# Altium footprint library SSOP.PcbLib: 21 footprints (part 1 of 2)
Each footprint in its own frame and in the unit in brackets; x right, y up, seen from the top. Pads: shape width x height; smd on the part's side, far side on the other; paste and mask are expansions set on the pad; w line width, h text height; cw(c..) or ccw(c..) is an arc to the next point about the centre after c.
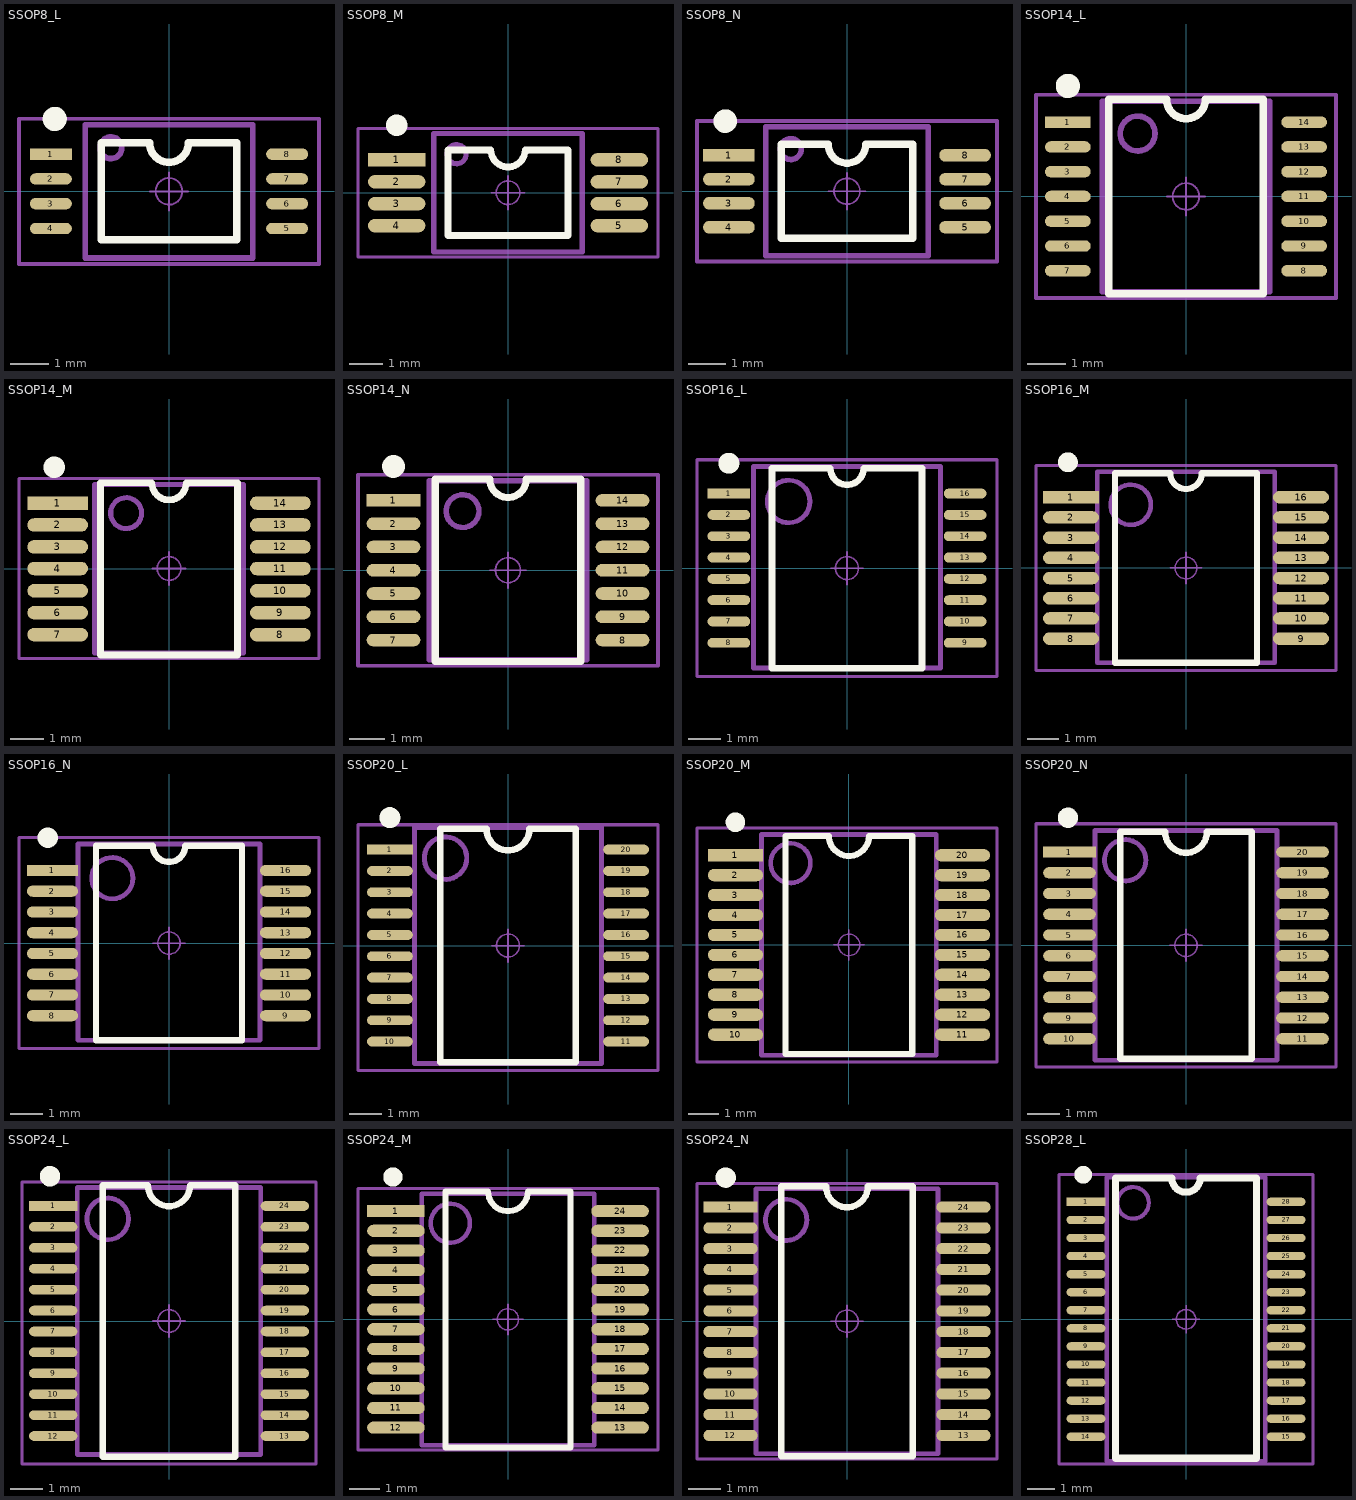
[diagram p0: the footprints below, top view; thin cyan lines are the x and y axes]

## SSOP8_L [mm] "3*6.4*1.2mm（长宽高）"
pads (8):
  rect 1.1x0.3 smd: 1(-3.1,0.975)
  oval 1.1x0.3 smd: 2(-3.1,0.325) 3(-3.1,-0.325) 4(-3.1,-0.975) 5(3.1,-0.975) 6(3.1,-0.325) 7(3.1,0.325) 8(3.1,0.975)
Top Overlay:
  circle w0.381: c-3,1.9 r0.127
  lines w0.2: -1.778,-1.27 -1.778,1.27 -0.508,1.27 ccw(c0,1.27) 0.508,1.27 1.778,1.27 1.778,-1.27 -1.778,-1.27
Mechanical 13:
  circle w0.15: c-1.524,1.143 r0.284
  lines w0.15: -2.2,-1.75 -2.2,1.75 2.2,1.75 2.2,-1.75 -2.2,-1.75
Mechanical 15:
  circle w0.05: c0,0 r0.35
  lines w0.05: -0.5,0 0.5,0 ; 0,-0.5 0,0.5
  lines w0.1: -3.937,-1.905 3.937,-1.905 3.937,1.905 -3.937,1.905 -3.937,-1.905
3D body: height 1.25, standoff -0.03, extent -3.202,-1.75 3.202,1.75

## SSOP8_M [mm] "3*6.4*1.2mm（长宽高）"
pads (8):
  rect 1.7x0.4 smd: 1(-3.3,0.975)
  oval 1.7x0.4 smd: 2(-3.3,0.325) 3(-3.3,-0.325) 4(-3.3,-0.975) 5(3.3,-0.975) 6(3.3,-0.325) 7(3.3,0.325) 8(3.3,0.975)
Top Overlay:
  circle w0.381: c-3.3,2 r0.127
  lines w0.2: -1.778,-1.27 1.778,-1.27 1.778,1.27 0.508,1.27 cw(c0,1.27) -0.508,1.27 -1.778,1.27 -1.778,-1.27
Mechanical 13:
  circle w0.15: c-1.524,1.143 r0.284
  lines w0.15: -2.2,-1.75 -2.2,1.75 2.2,1.75 2.2,-1.75 -2.2,-1.75
Mechanical 15:
  circle w0.05: c0,0 r0.35
  lines w0.05: -0.5,0 0.5,0 ; 0,-0.5 0,0.5
  lines w0.1: -4.445,-1.905 -4.445,1.905 4.445,1.905 4.445,-1.905 -4.445,-1.905
3D body: height 1.25, standoff -0.03, extent -3.202,-1.75 3.202,1.75

## SSOP8_N [mm] "3*6.4*1.2mm（长宽高）"
pads (8):
  rect 1.4x0.35 smd: 1(-3.2,0.975)
  oval 1.4x0.35 smd: 2(-3.2,0.325) 3(-3.2,-0.325) 4(-3.2,-0.975) 5(3.2,-0.975) 6(3.2,-0.325) 7(3.2,0.325) 8(3.2,0.975)
Top Overlay:
  circle w0.381: c-3.3,1.9 r0.127
  lines w0.2: -1.778,-1.27 -1.778,1.27 -0.508,1.27 ccw(c0,1.27) 0.508,1.27 1.778,1.27 1.778,-1.27 -1.778,-1.27
Mechanical 13:
  circle w0.15: c-1.524,1.143 r0.284
  lines w0.15: -2.2,-1.75 -2.2,1.75 2.2,1.75 2.2,-1.75 -2.2,-1.75
Mechanical 15:
  circle w0.05: c0,0 r0.35
  lines w0.05: -0.5,0 0.5,0 ; 0,-0.5 0,0.5
  lines w0.1: -4.064,-1.905 3.429,-1.905 4.064,-1.905 4.064,1.905 -4.064,1.905 -4.064,-1.905
3D body: height 1.25, standoff -0.03, extent -3.202,-1.75 3.202,1.75

## SSOP14_L [mm] "5*6.4*1.2mm（长宽高）"
height 1.1
pads (14):
  rect 1.2x0.3 smd: 1(-3.1,1.95)
  oval 1.2x0.3 smd: 2(-3.1,1.3) 3(-3.1,0.65) 4(-3.1,0) 5(-3.1,-0.65) 6(-3.1,-1.3) 7(-3.1,-1.95) 8(3.1,-1.95) 9(3.1,-1.3) 10(3.1,-0.65) 11(3.1,0) 12(3.1,0.65) 13(3.1,1.3) 14(3.1,1.95)
Top Overlay:
  circle w0.381: c-3.1,2.9 r0.127
  lines w0.2: -2.032,-2.55 -2.032,2.55 -0.508,2.55 ccw(c0,2.55) 0.508,2.55 2.032,2.55 2.032,-2.55 -2.032,-2.55
Mechanical 13:
  circle w0.15: c-1.27,1.651 r0.458
  lines w0.15: -2.2,-2.5 2.2,-2.5 2.2,2.5 -2.2,2.5 -2.2,-2.5
Mechanical 15:
  circle w0.05: c0,0 r0.35
  lines w0.05: -0.5,0 0.5,0 ; 0,-0.5 0,0.5
  lines w0.1: -3.937,-2.667 -3.937,-2.54 -3.937,2.667 3.937,2.667 3.937,-2.667 -3.937,-2.667
3D body: height 1.25, standoff -0.03, extent -3.202,-2.5 3.202,2.5

## SSOP14_M [mm] "5*6.4*1.2mm（长宽高）"
height 1.1
pads (14):
  rect 1.8x0.4 smd: 1(-3.3,1.94)
  oval 1.8x0.4 smd: 2(-3.3,1.29) 3(-3.3,0.64) 4(-3.3,0) 5(-3.3,-0.66) 6(-3.3,-1.31) 7(-3.3,-1.96) 8(3.3,-1.96) 9(3.3,-1.31) 10(3.3,-0.66) 11(3.3,0) 12(3.3,0.64) 13(3.3,1.29) 14(3.3,1.94)
Top Overlay:
  circle w0.381: c-3.4,3 r0.127
  lines w0.2: -2.032,-2.56 -2.032,2.54 -0.508,2.54 ccw(c0,2.54) 0.508,2.54 2.032,2.54 2.032,-2.56 -2.032,-2.56
Mechanical 13:
  circle w0.15: c-1.27,1.641 r0.458
  lines w0.15: -2.2,-2.51 -2.2,2.49 2.2,2.49 2.2,-2.51 -2.2,-2.51
Mechanical 15:
  circle w0.05: c0,0 r0.35
  lines w0.05: -0.5,0 0.5,0 ; 0,-0.5 0,0.5
  lines w0.1: -4.445,-2.667 -4.445,2.667 4.445,2.667 4.445,-2.667 -4.445,-2.667
3D body: height 1.25, standoff -0.03, extent -3.202,-2.51 3.202,2.49

## SSOP14_N [mm] "5*6.4*1.2mm（长宽高）"
height 1.1
pads (14):
  rect 1.5x0.35 smd: 1(-3.2,1.95)
  oval 1.5x0.35 smd: 2(-3.2,1.3) 3(-3.2,0.65) 4(-3.2,0) 5(-3.2,-0.65) 6(-3.2,-1.3) 7(-3.2,-1.95) 8(3.2,-1.95) 9(3.2,-1.3) 10(3.2,-0.65) 11(3.2,0) 12(3.2,0.65) 13(3.2,1.3) 14(3.2,1.95)
Top Overlay:
  circle w0.381: c-3.2,2.9 r0.127
  lines w0.2: -2.032,-2.55 2.032,-2.55 2.032,2.55 0.508,2.55 cw(c0,2.54) -0.508,2.55 -2.032,2.55 -2.032,-2.55
Mechanical 13:
  circle w0.15: c-1.27,1.651 r0.458
  lines w0.15: -2.2,-2.5 -2.2,2.5 2.2,2.5 2.2,-2.5 -2.2,-2.5
Mechanical 15:
  circle w0.05: c0,0 r0.35
  lines w0.05: -0.5,0 0.5,0 ; 0,-0.5 0,0.5
  lines w0.1: -4.191,-2.667 -4.191,2.667 4.191,2.667 4.191,-2.667 -4.191,-2.667
3D body: height 1.25, standoff -0.03, extent -3.202,-2.5 3.202,2.5

## SSOP16_L [mm] "6.3*7.7*1.6mm（长宽高）"
pads (16):
  rect 1.3x0.3 smd: 1(-3.6,2.275)
  oval 1.3x0.3 smd: 2(-3.6,1.625) 3(-3.6,0.975) 4(-3.6,0.325) 5(-3.6,-0.325) 6(-3.6,-0.975) 7(-3.6,-1.625) 8(-3.6,-2.275) 9(3.6,-2.275) 10(3.6,-1.625) 11(3.6,-0.975) 12(3.6,-0.325) 13(3.6,0.325) 14(3.6,0.975) 15(3.6,1.625) 16(3.6,2.275)
Top Overlay:
  circle w0.381: c-3.6,3.2 r0.127
  lines w0.2: -2.286,-3.048 -2.286,3.048 -0.508,3.048 ccw(c0,3.048) 0.508,3.048 2.286,3.048 2.286,-3.048 -2.286,-3.048
Mechanical 13:
  circle w0.15: c-1.778,2.032 r0.648
  lines w0.15: -2.85,-3.048 2.85,-3.048 2.85,3.1 -2.85,3.1 -2.85,-3.048
Mechanical 15:
  circle w0.05: c0,0 r0.35
  lines w0.05: -0.5,0 0.5,0 ; 0,-0.5 0,0.5
  lines w0.1: -4.572,-3.302 -4.572,3.302 4.572,3.302 4.572,-3.302 -4.572,-3.302
3D body: height 1.65, standoff -0.03, extent -3.852,-3.1 3.852,3.1

## SSOP16_M [mm] "6.3*7.7*1.6mm（长宽高）"
pads (16):
  rect 1.8x0.4 smd: 1(-3.7,2.275)
  oval 1.8x0.4 smd: 2(-3.7,1.625) 3(-3.7,0.975) 4(-3.7,0.325) 5(-3.7,-0.325) 6(-3.7,-0.975) 7(-3.7,-1.625) 8(-3.7,-2.275) 9(3.7,-2.275) 10(3.7,-1.625) 11(3.7,-0.975) 12(3.7,-0.325) 13(3.7,0.325) 14(3.7,0.975) 15(3.7,1.625) 16(3.7,2.275)
Top Overlay:
  circle w0.381: c-3.8,3.4 r0.127
  lines w0.2: -2.286,-3.048 2.286,-3.048 2.286,3.048 0.508,3.048 cw(c0,3.048) -0.508,3.048 -2.286,3.048 -2.286,-3.048
Mechanical 13:
  circle w0.15: c-1.778,2.032 r0.648
  lines w0.15: -2.85,-3.048 -2.85,3.1 2.85,3.1 2.85,-3.048 -2.85,-3.048
Mechanical 15:
  circle w0.05: c0,0 r0.35
  lines w0.05: -0.5,0 0.5,0 ; 0,-0.5 0,0.5
  lines w0.1: -4.826,-3.302 4.826,-3.302 4.826,3.302 -4.826,3.302 -4.826,-3.302
3D body: height 1.65, standoff -0.03, extent -3.852,-3.1 3.852,3.1

## SSOP16_N [mm] "6.3*7.7*1.6mm（长宽高）"
pads (16):
  rect 1.6x0.35 smd: 1(-3.65,2.275)
  oval 1.6x0.35 smd: 2(-3.65,1.625) 3(-3.65,0.975) 4(-3.65,0.325) 5(-3.65,-0.325) 6(-3.65,-0.975) 7(-3.65,-1.625) 8(-3.65,-2.275) 9(3.65,-2.275) 10(3.65,-1.625) 11(3.65,-0.975) 12(3.65,-0.325) 13(3.65,0.325) 14(3.65,0.975) 15(3.65,1.625) 16(3.65,2.275)
Top Overlay:
  circle w0.381: c-3.8,3.3 r0.127
  lines w0.2: -2.286,-3.048 2.286,-3.048 2.286,3.048 0.508,3.048 cw(c0,3.048) -0.508,3.048 -2.286,3.048 -2.286,-3.048
Mechanical 13:
  circle w0.15: c-1.778,2.032 r0.648
  lines w0.15: -2.85,-3.048 2.85,-3.048 2.85,3.1 -2.85,3.1 -2.85,-3.048
Mechanical 15:
  circle w0.05: c0,0 r0.35
  lines w0.05: -0.5,0 0.5,0 ; 0,-0.5 0,0.5
  lines w0.1: -4.699,-3.302 -4.699,3.302 4.699,3.302 4.699,-3.302 -4.699,-3.302
3D body: height 1.65, standoff -0.03, extent -3.852,-3.1 3.852,3.1

## SSOP20_L [mm] "7.2*7.8*1.6（长宽高）"
pads (20):
  rect 1.4x0.3 smd: 1(-3.6,2.925)
  oval 1.4x0.3 smd: 2(-3.6,2.275) 3(-3.6,1.625) 4(-3.6,0.975) 5(-3.6,0.325) 6(-3.6,-0.325) 7(-3.6,-0.975) 8(-3.6,-1.625) 9(-3.6,-2.275) 10(-3.6,-2.925) 11(3.6,-2.925) 12(3.6,-2.275) 13(3.6,-1.625) 14(3.6,-0.975) 15(3.6,-0.325) 16(3.6,0.325) 17(3.6,0.975) 18(3.6,1.625) 19(3.6,2.275) 20(3.6,2.925)
Top Overlay:
  circle w0.381: c-3.6,3.9 r0.127
  lines w0.2: -2.065,-3.556 2.065,-3.556 2.065,3.556 0.655,3.556 cw(c0,3.556) -0.655,3.556 -2.065,3.556 -2.065,-3.556
Mechanical 13:
  circle w0.15: c-1.905,2.667 r0.648
  lines w0.15: -2.85,-3.6 2.85,-3.6 2.85,3.6 -2.85,3.6 -2.85,-3.6
Mechanical 15:
  circle w0.05: c0,0 r0.35
  lines w0.05: -0.5,0 0.5,0 ; 0,-0.5 0,0.5
  lines w0.1: -4.572,-3.81 -2.667,-3.81 4.572,-3.81 4.572,3.683 -4.572,3.683 -4.572,-3.81
3D body: height 1.65, standoff -0.03, extent -3.852,-3.6 3.852,3.6

## SSOP20_M [mm] "7.2*7.8*1.6（长宽高）"
pads (20):
  rect 1.8x0.4 smd: 1(-3.7,2.925)
  oval 1.8x0.4 smd: 2(-3.7,2.275) 3(-3.7,1.625) 4(-3.7,0.975) 5(-3.7,0.325) 6(-3.7,-0.325) 7(-3.7,-0.975) 8(-3.7,-1.625) 9(-3.7,-2.275) 10(-3.7,-2.925) 11(3.7,-2.925) 12(3.7,-2.275) 13(3.7,-1.625) 14(3.7,-0.975) 15(3.7,-0.325) 16(3.7,0.325) 17(3.7,0.975) 18(3.7,1.625) 19(3.7,2.275) 20(3.7,2.925)
Top Overlay:
  circle w0.381: c-3.7,4 r0.127
  lines w0.2: -2.065,-3.556 2.065,-3.556 2.065,3.556 0.655,3.556 cw(c0,3.556) -0.655,3.556 -2.065,3.556 -2.065,-3.556
Mechanical 13:
  circle w0.15: c-1.905,2.667 r0.648
  lines w0.15: -2.85,-3.6 2.85,-3.6 2.85,3.6 -2.85,3.6 -2.85,-3.6
Mechanical 15:
  circle w0.05: c0,0 r0.35
  lines w0.05: -0.5,0 0.5,0 ; 0,-0.5 0,0.5
  lines w0.1: -4.953,-3.81 4.826,-3.81 4.826,3.81 -4.953,3.81 -4.953,-3.81
3D body: height 1.65, standoff -0.03, extent -3.852,-3.6 3.852,3.6

## SSOP20_N [mm] "7.2*7.8*1.6（长宽高）"
pads (20):
  rect 1.65x0.35 smd: 1(-3.65,2.925)
  oval 1.65x0.35 smd: 2(-3.65,2.275) 3(-3.65,1.625) 4(-3.65,0.975) 5(-3.65,0.325) 6(-3.65,-0.325) 7(-3.65,-0.975) 8(-3.65,-1.625) 9(-3.65,-2.275) 10(-3.65,-2.925) 11(3.65,-2.925) 12(3.65,-2.275) 13(3.65,-1.625) 14(3.65,-0.975) 15(3.65,-0.325) 16(3.65,0.325) 17(3.65,0.975) 18(3.65,1.625) 19(3.65,2.275) 20(3.65,2.925)
Top Overlay:
  circle w0.381: c-3.7,4 r0.127
  lines w0.2: -2.065,-3.556 2.065,-3.556 2.065,3.556 0.655,3.556 cw(c0,3.556) -0.655,3.556 -2.065,3.556 -2.065,-3.556
Mechanical 13:
  circle w0.15: c-1.905,2.667 r0.648
  lines w0.15: -2.85,-3.6 -2.85,3.6 2.85,3.6 2.85,-3.6 -2.85,-3.6
Mechanical 15:
  circle w0.05: c0,0 r0.35
  lines w0.05: -0.5,0 0.5,0 ; 0,-0.5 0,0.5
  lines w0.1: -4.699,-3.81 4.699,-3.81 4.699,3.81 -4.699,3.81 -4.699,-3.81
3D body: height 1.65, standoff -0.03, extent -3.852,-3.6 3.852,3.6

## SSOP24_L [mm] "8.3*7.8*1.6（长宽高）"
pads (24):
  rect 1.5x0.3 smd: 1(-3.6,3.575)
  oval 1.5x0.3 smd: 2(-3.6,2.925) 3(-3.6,2.275) 4(-3.6,1.625) 5(-3.6,0.975) 6(-3.6,0.325) 7(-3.6,-0.325) 8(-3.6,-0.975) 9(-3.6,-1.625) 10(-3.6,-2.275) 11(-3.6,-2.925) 12(-3.6,-3.575) 13(3.6,-3.575) 14(3.6,-2.925) 15(3.6,-2.275) 16(3.6,-1.625) 17(3.6,-0.975) 18(3.6,-0.325) 19(3.6,0.325) 20(3.6,0.975) 21(3.6,1.625) 22(3.6,2.275) 23(3.6,2.925) 24(3.6,3.575)
Top Overlay:
  circle w0.381: c-3.7,4.5 r0.127
  lines w0.2: -2.065,-4.225 2.065,-4.225 2.065,4.225 0.655,4.225 cw(c0,4.225) -0.655,4.225 -2.065,4.225 -2.065,-4.225
Mechanical 13:
  circle w0.15: c-1.905,3.175 r0.648
  lines w0.15: -2.85,-4.15 2.85,-4.15 2.85,4.15 -2.85,4.15 -2.85,-4.15
Mechanical 15:
  circle w0.05: c0,0 r0.35
  lines w0.05: -0.5,0 0.5,0 ; 0,-0.5 0,0.5
  lines w0.1: -4.572,-4.445 -4.572,4.318 4.572,4.318 4.572,-4.445 -4.572,-4.445
3D body: height 1.65, standoff -0.03, extent -3.852,-4.15 3.852,4.15

## SSOP24_M [mm] "8.3*7.8*1.6（长宽高）"
pads (24):
  rect 1.9x0.4 smd: 1(-3.7,3.575)
  oval 1.9x0.4 smd: 2(-3.7,2.925) 3(-3.7,2.275) 4(-3.7,1.625) 5(-3.7,0.975) 6(-3.7,0.325) 7(-3.7,-0.325) 8(-3.7,-0.975) 9(-3.7,-1.625) 10(-3.7,-2.275) 11(-3.7,-2.925) 12(-3.7,-3.575) 13(3.7,-3.575) 14(3.7,-2.925) 15(3.7,-2.275) 16(3.7,-1.625) 17(3.7,-0.975) 18(3.7,-0.325) 19(3.7,0.325) 20(3.7,0.975) 21(3.7,1.625) 22(3.7,2.275) 23(3.7,2.925) 24(3.7,3.575)
Top Overlay:
  circle w0.381: c-3.8,4.7 r0.127
  lines w0.2: -2.065,-4.225 2.065,-4.225 2.065,4.225 0.655,4.225 cw(c0,4.225) -0.655,4.225 -2.065,4.225 -2.065,-4.225
Mechanical 13:
  circle w0.15: c-1.905,3.175 r0.648
  lines w0.15: -2.85,-4.15 2.85,-4.15 2.85,4.15 -2.85,4.15 -2.85,-4.15
Mechanical 15:
  circle w0.05: c0,0 r0.35
  lines w0.05: -0.5,0 0.5,0 ; 0,-0.5 0,0.5
  lines w0.1: -4.953,-4.318 4.953,-4.318 4.953,4.318 -4.953,4.318 -4.953,-4.318
3D body: height 1.65, standoff -0.03, extent -3.852,-4.15 3.852,4.15

## SSOP24_N [mm] "8.3*7.8*1.6（长宽高）"
pads (24):
  rect 1.7x0.35 smd: 1(-3.65,3.575)
  oval 1.7x0.35 smd: 2(-3.65,2.925) 3(-3.65,2.275) 4(-3.65,1.625) 5(-3.65,0.975) 6(-3.65,0.325) 7(-3.65,-0.325) 8(-3.65,-0.975) 9(-3.65,-1.625) 10(-3.65,-2.275) 11(-3.65,-2.925) 12(-3.65,-3.575) 13(3.65,-3.575) 14(3.65,-2.925) 15(3.65,-2.275) 16(3.65,-1.625) 17(3.65,-0.975) 18(3.65,-0.325) 19(3.65,0.325) 20(3.65,0.975) 21(3.65,1.625) 22(3.65,2.275) 23(3.65,2.925) 24(3.65,3.575)
Top Overlay:
  circle w0.381: c-3.8,4.5 r0.127
  lines w0.2: -2.065,-4.225 -2.065,4.225 -0.655,4.225 ccw(c0,4.225) 0.655,4.225 2.065,4.225 2.065,-4.225 -2.065,-4.225
Mechanical 13:
  circle w0.15: c-1.905,3.175 r0.648
  lines w0.15: -2.85,-4.15 2.85,-4.15 2.85,4.15 -2.85,4.15 -2.85,-4.15
Mechanical 15:
  circle w0.05: c0,0 r0.35
  lines w0.05: -0.5,0 0.5,0 ; 0,-0.5 0,0.5
  lines w0.1: -4.699,-4.318 4.699,-4.318 4.699,4.318 -4.699,4.318 -4.699,-4.318
3D body: height 1.65, standoff -0.03, extent -3.852,-4.15 3.852,4.15

## SSOP28_L [mm] "10.2*7.8*1.9mm(长宽高）"
pads (28):
  rect 1.4x0.3 smd: 1(-3.6,4.225)
  oval 1.4x0.3 smd: 2(-3.6,3.575) 3(-3.6,2.925) 4(-3.6,2.275) 5(-3.6,1.625) 6(-3.6,0.975) 7(-3.6,0.325) 8(-3.6,-0.325) 9(-3.6,-0.975) 10(-3.6,-1.625) 11(-3.6,-2.275) 12(-3.6,-2.925) 13(-3.6,-3.575) 14(-3.6,-4.225) 15(3.6,-4.225) 16(3.6,-3.575) 17(3.6,-2.925) 18(3.6,-2.275) 19(3.6,-1.625) 20(3.6,-0.975) 21(3.6,-0.325) 22(3.6,0.325) 23(3.6,0.975) 24(3.6,1.625) 25(3.6,2.275) 26(3.6,2.925) 27(3.6,3.575) 28(3.6,4.225)
Top Overlay:
  circle w0.381: c-3.7,5.2 r0.127
  lines w0.254: -2.54,-5 2.54,-5 2.54,5.08 0.508,5.08 cw(c0,5.08) -0.508,5.08 -2.54,5.08 -2.54,-5
Mechanical 13:
  circle w0.15: c-1.905,4.191 r0.568
  lines w0.15: -2.85,-5.1 -2.85,5.1 2.85,5.1 2.85,-5.1 -2.85,-5.1
Mechanical 15:
  circle w0.05: c0,0 r0.35
  lines w0.05: -0.5,0 0.5,0 ; 0,-0.5 0,0.5
  lines w0.1: -4.572,-5.207 4.572,-5.207 4.572,5.207 -4.572,5.207 -4.572,-5.207
3D body: height 1.65, standoff -0.03, extent -3.852,-5.1 3.852,5.1